# Altium footprint library ECE453_Interface.PcbLib: 9 footprints
Each footprint in its own frame and in the unit in brackets; x right, y up, seen from the top. Pads: shape width x height; smd on the part's side, far side on the other; paste and mask are expansions set on the pad; w line width, h text height; cw(c..) or ccw(c..) is an arc to the next point about the centre after c.
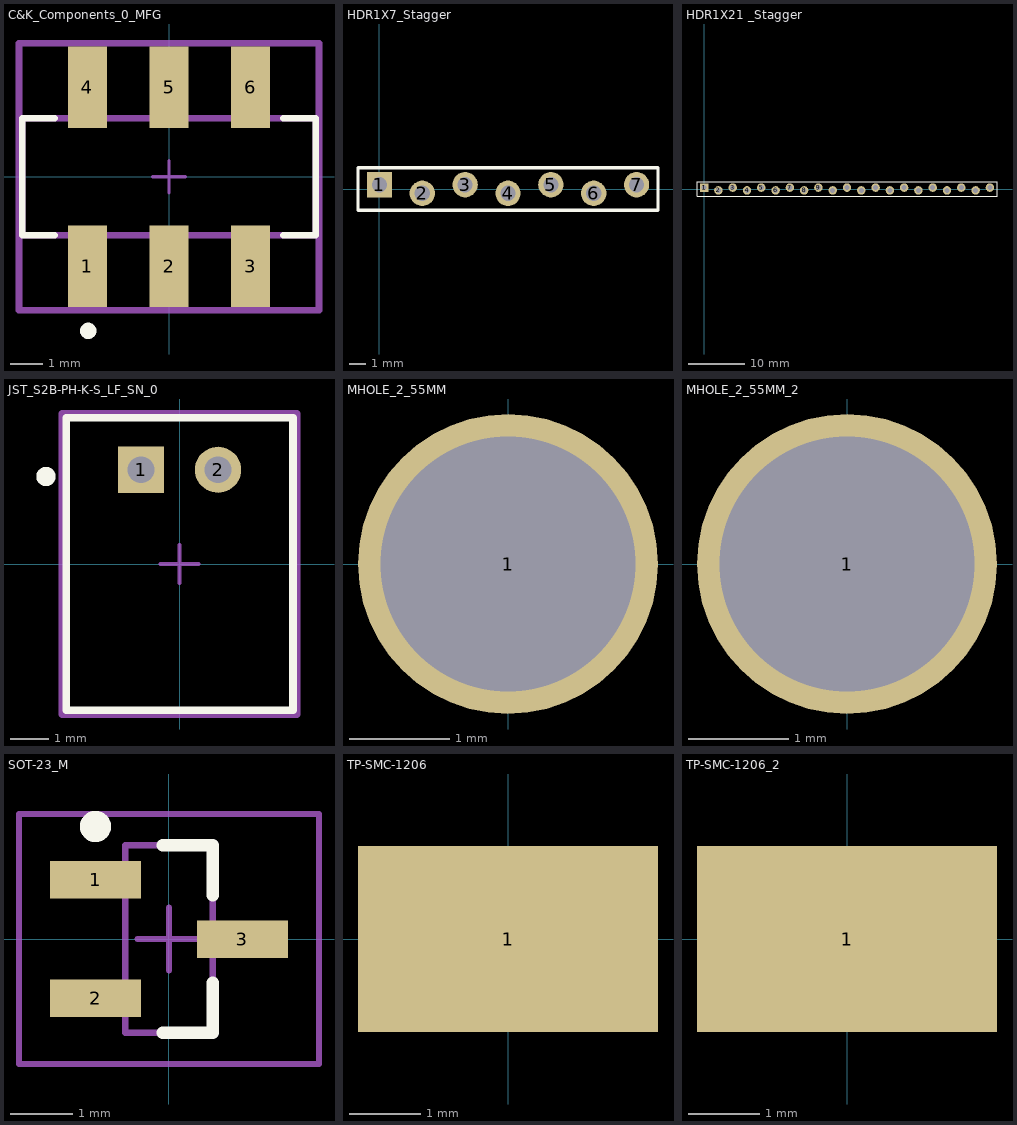
[diagram p0: the footprints below, top view; thin cyan lines are the x and y axes]

## C&K_Components_0_MFG [mm]
pads (6):
  rect 1.2x2.5 smd paste+0 mask+0: 1(-2.5,-2.75) 2(0,-2.75) 3(2.5,-2.75) 4(-2.5,2.75) 5(0,2.75) 6(2.5,2.75)
Top Overlay:
  circle w0.25: c-2.476,-4.725 r0.125
  lines w0.2: -3.5,-1.8 -4.5,-1.8 -4.5,1.8 -3.5,1.8 ; 3.5,-1.8 4.5,-1.8 4.5,1.8 3.5,1.8
Mechanical 10:
  lines w0.2: -4.6,-4.1 -4.6,4.1 4.6,4.1 4.6,-4.1 -4.6,-4.1
Mechanical 12:
  lines w0.2: -4.5,-1.8 -4.5,1.8 4.5,1.8 4.5,-1.8 -4.5,-1.8
Mechanical 15:
  lines w0.1: -0.5,0 0.5,0 ; 0,-0.5 0,0.5
  lines w0.2: -4.6,-4.1 -4.6,4.1 4.6,4.1 4.6,-4.1 -4.6,-4.1
3D body "JS202011SCQN--3DModel-STEP-56544.STEP": height 5.51, standoff 0, extent -4.496,-3.746 4.496,3.747

## HDR1X7_Stagger [mm]
pads (7):
  rect 1.5x1.5 hole 0.9: 1(0,0.254)
  round 1.5 hole 0.9: 2(2.54,-0.254) 3(5.08,0.254) 4(7.62,-0.254) 5(10.16,0.254) 6(12.7,-0.254) 7(15.24,0.254)
Top Overlay:
  lines w0.2: -1.27,-1.27 -1.27,1.27 0.635,1.27 16.51,1.27 16.51,-1.27 -1.27,-1.27

## HDR1X21 _Stagger [mm]
pads (21):
  rect 1.5x1.5 hole 0.9: 1(0,0.254)
  round 1.5 hole 0.9: 2(2.54,-0.254) 3(5.08,0.254) 4(7.62,-0.254) 5(10.16,0.254) 6(12.7,-0.254) 7(15.24,0.254) 8(17.78,-0.254) 9(20.32,0.254) 10(22.86,-0.254) 11(25.4,0.254) 12(27.94,-0.254) 13(30.48,0.254) 14(33.02,-0.254) 15(35.56,0.254) 16(38.1,-0.254) 17(40.64,0.254) 18(43.18,-0.254) 19(45.72,0.254) 20(48.26,-0.254) 21(50.8,0.254)
Top Overlay:
  lines w0.2: -1.27,-1.27 -1.27,1.27 0.635,1.27 52.07,1.27 52.07,-1.27 -1.27,-1.27

## JST_S2B-PH-K-S_LF_SN_0 [mm]
pads (2):
  rect 1.2x1.2 hole 0.7 paste-1000 mask+0: 1(-1,2.45)
  round 1.2 hole 0.7 paste-1000 mask+0: 2(1,2.45)
Top Overlay:
  circle w0.25: c-3.475,2.275 r0.125
  lines w0.2: -2.95,-3.8 2.95,-3.8 2.95,3.8 -2.95,3.8 -2.95,-3.8
Mechanical 10:
  lines w0.2: -3.05,-3.9 3.05,-3.9 3.05,3.9 -3.05,3.9 -3.05,-3.9
Mechanical 12:
  lines w0.15: -2.95,-3.8 2.95,-3.8 2.95,3.8 -2.95,3.8 -2.95,-3.8
Mechanical 15:
  lines w0.1: -0.5,0 0.5,0 ; 0,-0.5 0,0.5
  lines w0.2: -3.05,-3.9 3.05,-3.9 3.05,3.9 -3.05,3.9 -3.05,-3.9
3D body "Conn_JST_S2B-PH-K-S_LF_SN_eec.STEP": height 0.25, standoff 0, extent -3.05,-3.9 3.05,3.9

## MHOLE_2_55MM [mm]
pads (1):
  round 3 / inner round 4.572 / far side round 4.318 hole 2.55: 1(0,0)

## MHOLE_2_55MM_2 [mm]
pads (1):
  round 3 / inner round 4.572 / far side round 4.318 hole 2.55: 1(0,0)

## SOT-23_M [mm]
pads (3):
  rect 1.45x0.6 smd: 1(-1.175,0.95) 2(-1.175,-0.95) 3(1.175,0)
Top Overlay:
  circle w0.25: c-1.175,1.8 r0.125
  lines w0.2: -0.1,-1.5 0.7,-1.5 0.7,-0.7 ; -0.1,1.5 0.7,1.5 0.7,0.7
Mechanical 13:
  lines w0.1: -0.7,-1.5 0.7,-1.5 0.7,1.5 -0.7,1.5 -0.7,-1.5
Mechanical 15:
  lines w0.1: -0.5,0 0.5,0 ; 0,-0.5 0,0.5 ; -2.4,-2 2.4,-2 2.4,2 -2.4,2 -2.4,-2
3D body: height 1.1, standoff 0, extent -0.7,-1.5 0.7,1.5

## TP-SMC-1206 [mm]
pads (1):
  rect 4.2x2.6 smd mask+0: 1(0,0)
3D body "c-1625854-1-ba-3d.stp": height 1.22, standoff -0.03, extent -1.575,-0.787 1.625,0.813

## TP-SMC-1206_2 [mm]
pads (1):
  rect 4.2x2.6 smd mask+0: 1(0,0)
3D body "c-1625854-1-ba-3d.stp": height 1.22, standoff -0.03, extent -1.575,-0.787 1.625,0.813